# Altium footprint library SamacSys.PcbLib: 11 footprints
Each footprint in its own frame and in the unit in brackets; x right, y up, seen from the top. Pads: shape width x height; smd on the part's side, far side on the other; paste and mask are expansions set on the pad; w line width, h text height; cw(c..) or ccw(c..) is an arc to the next point about the centre after c.
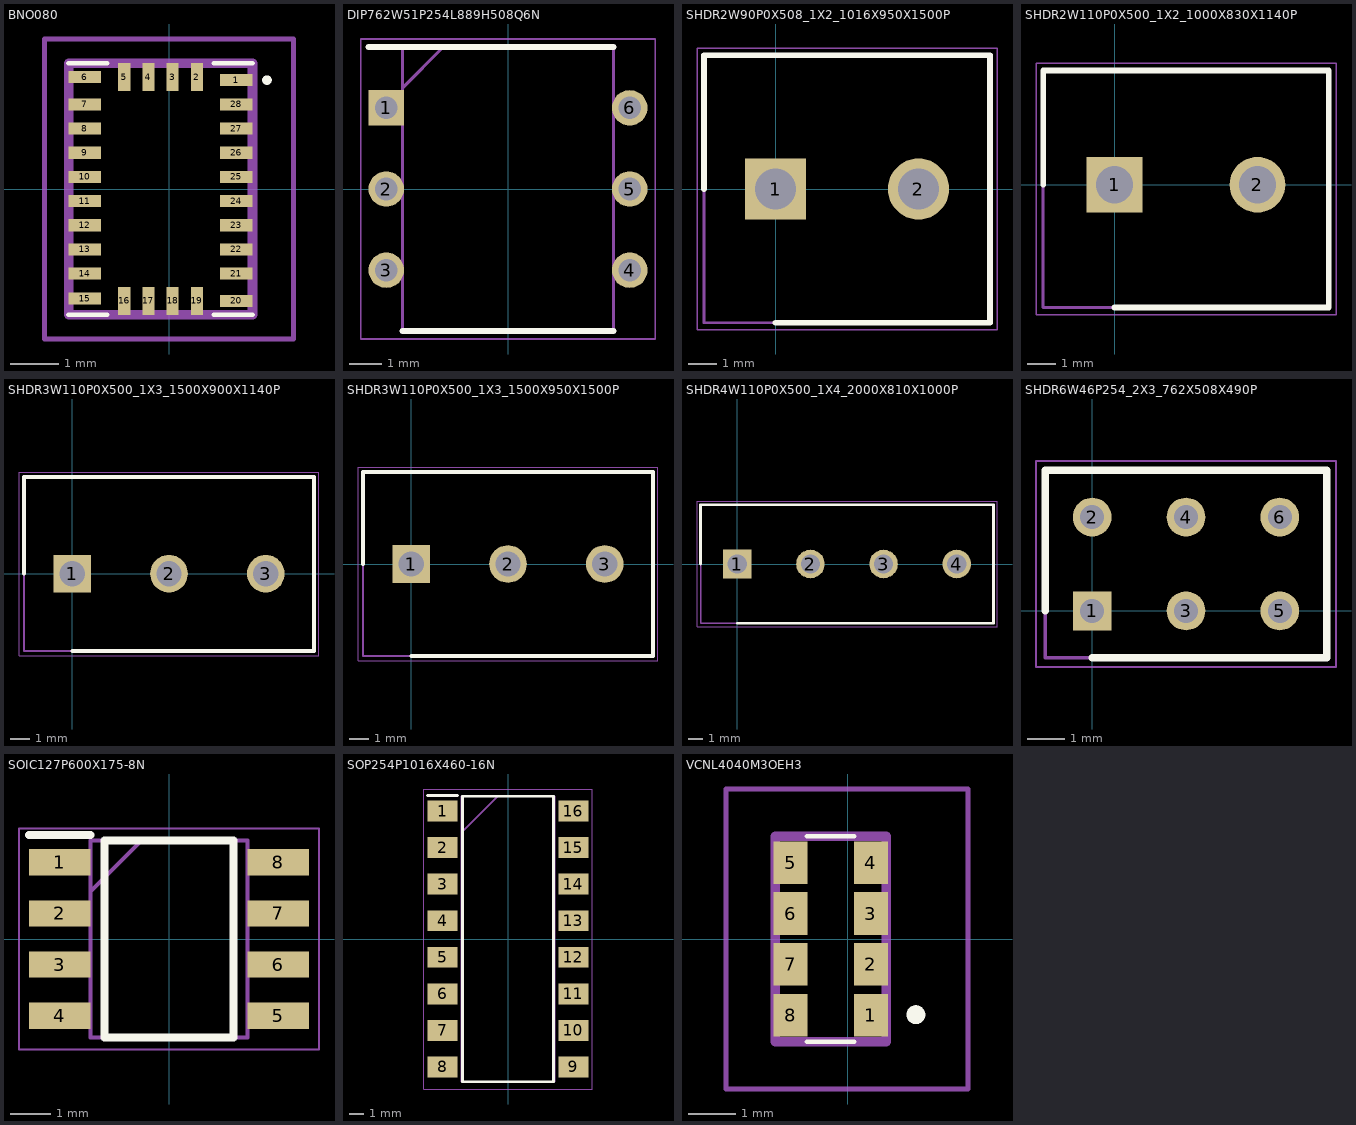
[diagram p0: the footprints below, top view; thin cyan lines are the x and y axes]

## BNO080 [mm]
pads (28):
  rect 0.675x0.25 smd: 1(1.387,2.25) 6(-1.738,2.313) 7(-1.738,1.75) 8(-1.738,1.25) 9(-1.738,0.75) 10(-1.738,0.25) 11(-1.738,-0.25) 12(-1.738,-0.75) 13(-1.738,-1.25) 14(-1.738,-1.75) 15(-1.738,-2.263) 20(1.387,-2.313) 21(1.387,-1.75) 22(1.387,-1.25) 23(1.387,-0.75) 24(1.387,-0.25) 25(1.387,0.25) 26(1.387,0.75) 27(1.387,1.25) 28(1.387,1.75)
  rect 0.25x0.575 smd: 2(0.575,2.313) 3(0.075,2.313) 4(-0.425,2.313) 5(-0.925,2.313) 16(-0.925,-2.313) 17(-0.425,-2.313) 18(0.075,-2.313) 19(0.575,-2.313)
Top Overlay:
  lines w0.1: -2.075,-2.6 -1.275,-2.6 ; -2.075,2.6 -1.275,2.6 ; 0.925,-2.6 1.725,-2.6 ; 0.925,2.6 1.725,2.6 ; 2.025,2.2 ccw(c2.025,2.25) 2.025,2.3 ccw(c2.025,2.25) 2.025,2.2
Mechanical 13:
  lines w0.2: -2.075,-2.6 1.725,-2.6 1.725,2.6 -2.075,2.6 -2.075,-2.6
Mechanical 15:
  lines w0.1: -2.575,-3.1 2.575,-3.1 2.575,3.1 -2.575,3.1 -2.575,-3.1
3D body "BNO080.stp": height 1.28, standoff 0, extent -2.075,-2.6 1.725,2.6

## DIP762W51P254L889H508Q6N [mm]
pads (6):
  rect 1.11x1.11 hole 0.71: 1(-3.81,2.54)
  round 1.11 hole 0.71: 2(-3.81,0) 3(-3.81,-2.54) 4(3.81,-2.54) 5(3.81,0) 6(3.81,2.54)
Top Overlay:
  lines w0.2: -4.365,4.445 3.3,4.445 ; -3.3,-4.445 3.3,-4.445
Mechanical 13:
  lines w0.1: -3.3,3.175 -2.03,4.445 ; -3.3,-4.445 -3.3,4.445 3.3,4.445 3.3,-4.445 -3.3,-4.445
Mechanical 15:
  lines w0.05: -4.615,-4.695 -4.615,4.695 4.615,4.695 4.615,-4.695 -4.615,-4.695
3D body "4N25M.stp": height 5.08, standoff -3.5, extent -3.938,-4.445 3.938,4.445

## SHDR2W90P0X508_1X2_1016X950X1500P [mm]
pads (2):
  rect 2.175x2.175 hole 1.45: 1(0,0)
  round 2.175 hole 1.45: 2(5.08,0)
Top Overlay:
  lines w0.2: -2.54,0 -2.54,4.75 7.62,4.75 7.62,-4.75 0,-4.75
Mechanical 13:
  lines w0.1: -2.54,-4.75 -2.54,4.75 7.62,4.75 7.62,-4.75 -2.54,-4.75
Mechanical 15:
  lines w0.05: -2.79,-5 -2.79,5 7.87,5 7.87,-5 -2.79,-5
3D body "1888687.stp": height 0.57, standoff -10.16, extent -9.5,-3.5 0,15

## SHDR2W110P0X500_1X2_1000X830X1140P [mm]
pads (2):
  rect 1.95x1.95 hole 1.3: 1(0,0)
  round 1.95 hole 1.3: 2(5,0)
Top Overlay:
  lines w0.2: -2.5,0 -2.5,4 7.5,4 7.5,-4.3 0,-4.3
Mechanical 13:
  lines w0.1: -2.5,-4.3 7.5,-4.3 7.5,4 -2.5,4 -2.5,-4.3
Mechanical 15:
  lines w0.05: -2.75,-4.55 7.75,-4.55 7.75,4.25 -2.75,4.25 -2.75,-4.55
3D body "1935161.stp": height 38.19, standoff 27.62, extent 8.255,-4.148 17.255,10.752

## SHDR3W110P0X500_1X3_1500X900X1140P [mm]
pads (3):
  rect 1.95x1.95 hole 1.3: 1(0,0)
  round 1.95 hole 1.3: 2(5,0) 3(10,0)
Top Overlay:
  lines w0.2: -2.5,0 -2.5,5 12.5,5 12.5,-4 0,-4
Mechanical 13:
  lines w0.1: -2.5,-4 12.5,-4 12.5,5 -2.5,5 -2.5,-4
Mechanical 15:
  lines w0.05: -2.75,-4.25 12.75,-4.25 12.75,5.25 -2.75,5.25 -2.75,-4.25
3D body "1935174.stp": height 38.19, standoff 22.62, extent 39.673,35.503 48.673,50.403

## SHDR3W110P0X500_1X3_1500X950X1500P [mm]
pads (3):
  rect 1.95x1.95 hole 1.3: 1(0,0)
  round 1.95 hole 1.3: 2(5,0) 3(10,0)
Top Overlay:
  lines w0.2: -2.5,0 -2.5,4.75 12.5,4.75 12.5,-4.75 0,-4.75
Mechanical 13:
  lines w0.1: -2.5,-4.75 -2.5,4.75 12.5,4.75 12.5,-4.75 -2.5,-4.75
Mechanical 15:
  lines w0.05: -2.75,-5 -2.75,5 12.75,5 12.75,-5 -2.75,-5
3D body "1890976.stp": height 0.57, standoff -15, extent -9.5,-3.5 0,15

## SHDR4W110P0X500_1X4_2000X810X1000P [mm]
pads (4):
  rect 1.95x1.95 hole 1.3: 1(0,0)
  round 1.95 hole 1.3: 2(5,0) 3(10,0) 4(15,0)
Top Overlay:
  lines w0.2: -2.5,0 -2.5,4.05 17.5,4.05 17.5,-4.05 0,-4.05
Mechanical 13:
  lines w0.1: -2.5,-4.05 -2.5,4.05 17.5,4.05 17.5,-4.05 -2.5,-4.05
Mechanical 15:
  lines w0.05: -2.75,-4.3 -2.75,4.3 17.75,4.3 17.75,-4.3 -2.75,-4.3
3D body "1729034.stp": height 0, standoff -20.57, extent -7.577,-3.5 0.573,10

## SHDR6W46P254_2X3_762X508X490P [mm]
pads (6):
  rect 1.05x1.05 hole 0.65: 1(0,0)
  round 1.05 hole 0.65: 2(0,2.54) 3(2.54,0) 4(2.54,2.54) 5(5.08,0) 6(5.08,2.54)
Top Overlay:
  lines w0.2: -1.27,0 -1.27,3.81 6.35,3.81 6.35,-1.27 0,-1.27
Mechanical 13:
  lines w0.1: -1.27,-1.27 -1.27,3.81 6.35,3.81 6.35,-1.27 -1.27,-1.27
Mechanical 15:
  lines w0.05: -1.52,-1.52 -1.52,4.06 6.6,4.06 6.6,-1.52 -1.52,-1.52

## SOIC127P600X175-8N [mm]
pads (8):
  rect 1.525x0.65 smd: 1(-2.712,1.905) 2(-2.712,0.635) 3(-2.712,-0.635) 4(-2.712,-1.905) 5(2.712,-1.905) 6(2.712,-0.635) 7(2.712,0.635) 8(2.712,1.905)
Top Overlay:
  lines w0.2: -3.475,2.58 -1.95,2.58 ; -1.6,-2.45 1.6,-2.45 1.6,2.45 -1.6,2.45 -1.6,-2.45
Mechanical 13:
  lines w0.1: -1.95,1.18 -0.68,2.45 ; -1.95,-2.45 1.95,-2.45 1.95,2.45 -1.95,2.45 -1.95,-2.45
Mechanical 15:
  lines w0.05: -3.725,-2.75 3.725,-2.75 3.725,2.75 -3.725,2.75 -3.725,-2.75
3D body "NE555DR.stp": height 1.75, standoff 0, extent -3,-2.45 3,2.45

## SOP254P1016X460-16N [mm]
pads (16):
  rect 2.1x1.45 smd: 1(-4.55,8.89) 2(-4.55,6.35) 3(-4.55,3.81) 4(-4.55,1.27) 5(-4.55,-1.27) 6(-4.55,-3.81) 7(-4.55,-6.35) 8(-4.55,-8.89) 9(4.55,-8.89) 10(4.55,-6.35) 11(4.55,-3.81) 12(4.55,-1.27) 13(4.55,1.27) 14(4.55,3.81) 15(4.55,6.35) 16(4.55,8.89)
Top Overlay:
  lines w0.2: -5.6,9.965 -3.5,9.965 ; -3.15,-9.92 -3.15,9.92 3.15,9.92 3.15,-9.92 -3.15,-9.92
Mechanical 13:
  lines w0.1: -3.25,7.38 -0.71,9.92 ; -3.25,-9.92 -3.25,9.92 3.25,9.92 3.25,-9.92 -3.25,-9.92
Mechanical 15:
  lines w0.05: -5.85,-10.42 -5.85,10.42 5.85,10.42 5.85,-10.42 -5.85,-10.42
3D body "ACPL-847-300E.stp": height 4.6, standoff 0, extent -5.08,-9.92 5.08,9.92

## VCNL4040M3OEH3 [mm]
pads (8):
  rect 0.725x0.9 smd: 1(0.487,-1.612) 2(0.487,-0.537) 3(0.487,0.538) 4(0.487,1.612) 5(-1.213,1.612) 6(-1.213,0.538) 7(-1.213,-0.537) 8(-1.213,-1.612)
Top Overlay:
  lines w0.1: -0.863,-2.17 0.137,-2.17 ; -0.863,2.17 0.137,2.17
  lines w0.2: 1.437,-1.7 ccw(c1.437,-1.6) 1.437,-1.5 ccw(c1.437,-1.6) 1.437,-1.7
Mechanical 13:
  lines w0.2: -1.538,-2.17 -1.538,2.17 0.812,2.17 0.812,-2.17 -1.538,-2.17
Mechanical 15:
  lines w0.1: -2.575,-3.17 -2.575,3.17 2.537,3.17 2.537,-3.17 -2.575,-3.17
3D body "VCNL4040M3OE-H3.stp": height 3.1, standoff 0, extent -1.538,-2.17 0.812,2.17